# EAGLE library part 3X8 (library Drone_Connectors)
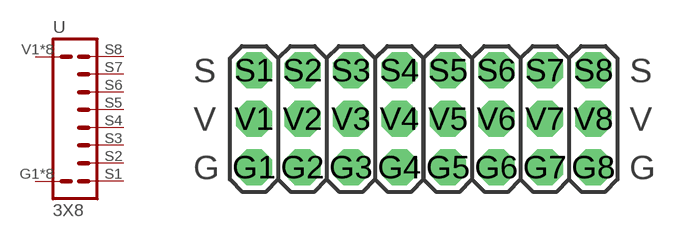
[diagram p1: symbol with the pads of 3X8; footprint 3X8]

Designator prefix -

## 3X8  [3X8]
G1  G  pwr
G2  G  pwr
G3  G  pwr
G4  G  pwr
G5  G  pwr
G6  G  pwr
G7  G  pwr
G8  G  pwr
S1  1
S2  2
S3  3
S4  4
S5  5
S6  6
S7  7
S8  8
V1  V  pwr
V2  V  pwr
V3  V  pwr
V4  V  pwr
V5  V  pwr
V6  V  pwr
V7  V  pwr
V8  V  pwr

## Footprint 3X8 (pad centres in mm)
drill 1.016 pad 1.88 octagon: G1 -8.89,-2.54; G2 -6.35,-2.54; G3 -3.81,-2.54; G4 -1.27,-2.54; G5 1.27,-2.54; G6 3.81,-2.54; G7 6.35,-2.54; G8 8.89,-2.54; S1 -8.89,2.54; S2 -6.35,2.54; S3 -3.81,2.54; S4 -1.27,2.54; S5 1.27,2.54; S6 3.81,2.54; S7 6.35,2.54; S8 8.89,2.54; V1 -8.89,0; V2 -6.35,0; V3 -3.81,0; V4 -1.27,0; V5 1.27,0; V6 3.81,0; V7 6.35,0; V8 8.89,0